# Altium footprint library con-phoenix-350.PCBLIB: 23 footprints (part 1 of 2)
Each footprint in its own frame and in the unit in brackets; x right, y up, seen from the top. Pads: shape width x height; smd on the part's side, far side on the other; paste and mask are expansions set on the pad; w line width, h text height; cw(c..) or ccw(c..) is an arc to the next point about the centre after c.
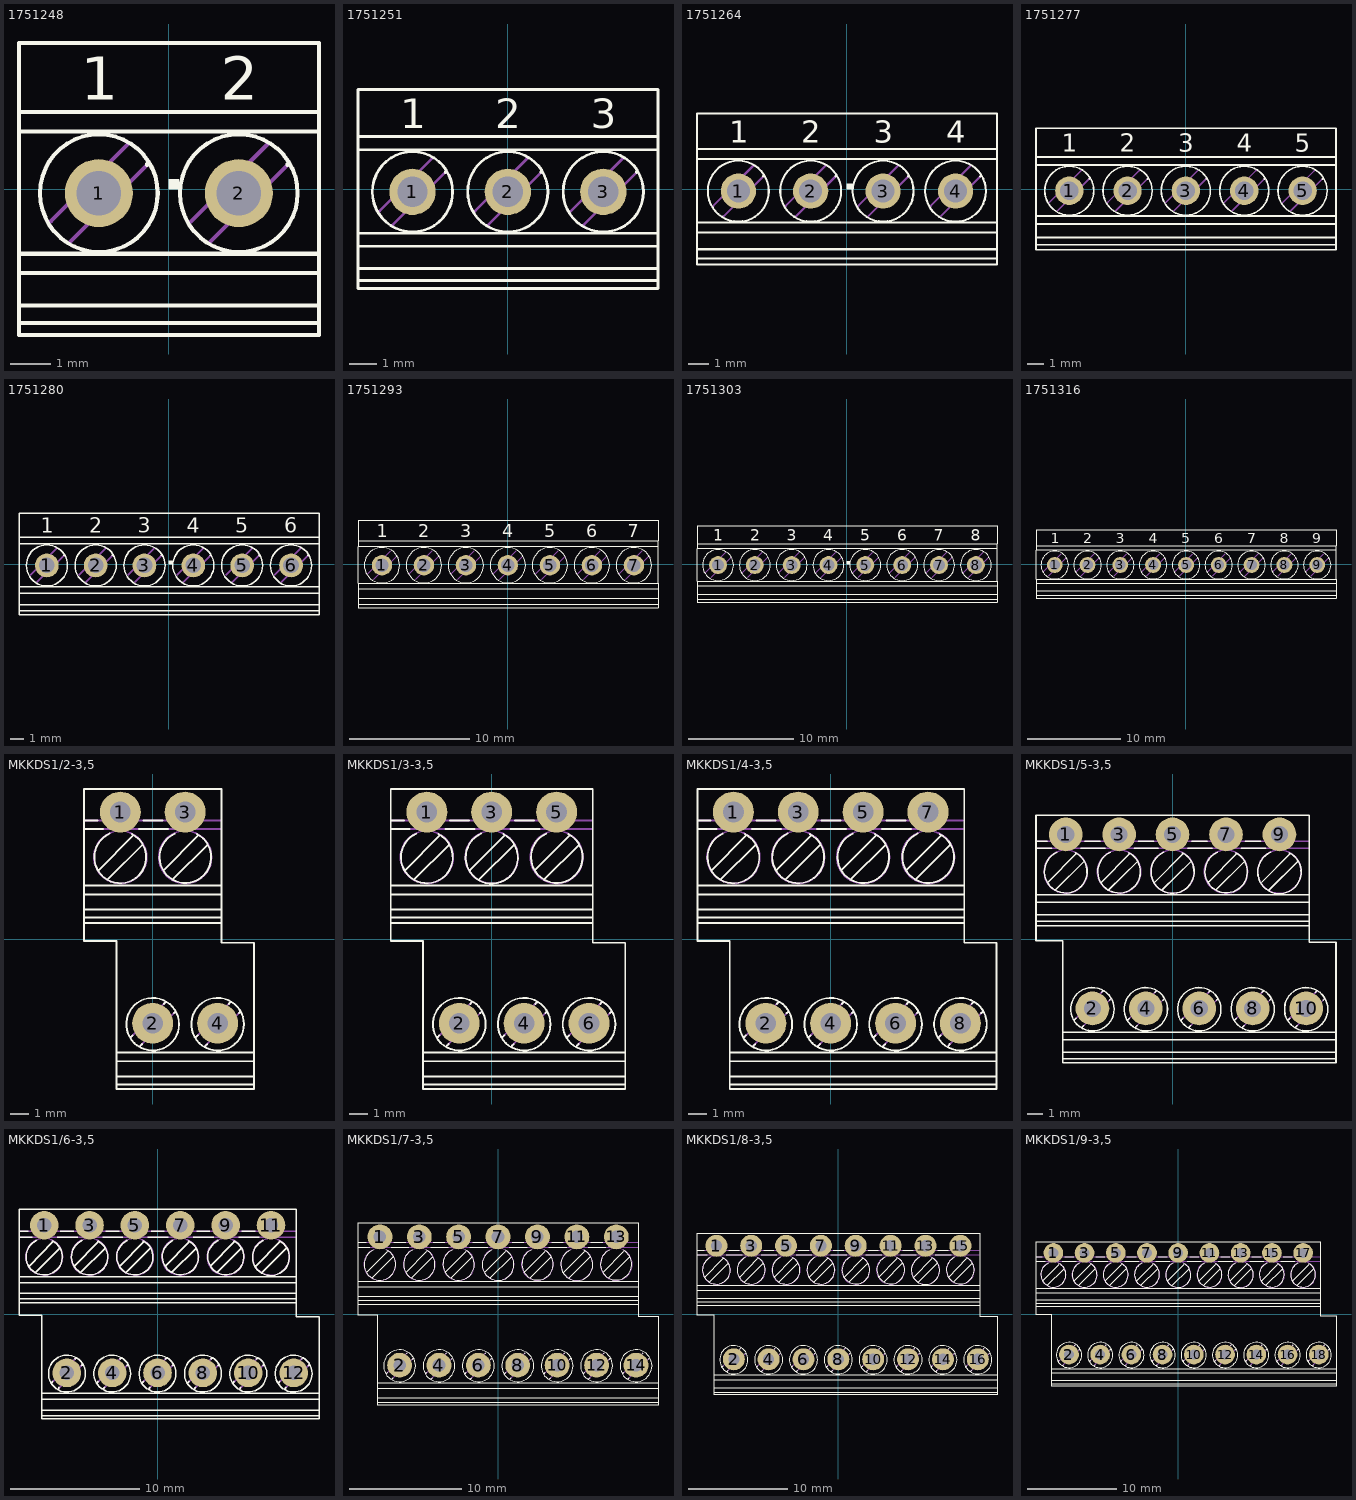
[diagram p0: the footprints below, top view; thin cyan lines are the x and y axes]

## 1751248 [mil]
pads (2):
  round 67 hole 44: 1(-68.9,-3.94) 2(69,-3.94)
Top Overlay:
  circle w4: c-68.9,-3.94 r58
  circle w4: c69,-3.94 r58
  region: 0,0 10,0 10,10 0,10
  lines w4: -21.65,24 -21.42,25 ; 117,24 117,25 ; -147.64,-131.89 148,-131.89 ; -147.64,-131.89 -147.64,-143.7 148,-143.7 148,-131.89 ; -147.64,-131.89 -147.64,-114.61 ; -147.64,-114.61 -147.64,-82.65 ; -147.64,-114.61 148,-114.61 ; -147.64,-82.65 148,-82.65 ; -147.64,-82.65 -147.64,-63.63 ; -147.64,-63.63 -147.64,57 ; -147.64,-63.63 148,-63.63 ; -147.64,57 -147.64,76 ; -147.64,57 148,57 ; -147.64,76 -147.64,144 148,144 148,76 ; -147.64,76 148,76 ; 148,-131.89 148,-114.61 ; 148,-114.61 148,-82.65 ; 148,-82.65 148,-63.63 ; 148,-63.63 148,57 ; 148,57 148,76
  text "1" at -86.61,88 h42.5
  text "2" at 51,88 h42.5
Mechanical 16:
  lines w4: -116.38,-31.93 -40.91,44 ; -96.89,-51.42 -21.65,24 ; 22,-31.93 97,44 ; 41,-51.42 117,24

## 1751251 [mil]
pads (3):
  round 67 hole 44: 1(-137.8,-3.94) 2(0,-3.94) 3(138,-3.94)
Top Overlay:
  circle w4: c-137.8,-3.94 r58
  circle w4: c0,-3.94 r58
  circle w4: c138,-3.94 r58
  region: 0,0 10,0 10,10 0,10
  lines w4: -90.55,24 -90.31,25 ; 48,24 48,25 ; 186,24 186,25 ; -216.54,-131.89 217,-131.89 ; -216.54,-131.89 -216.54,-143.7 217,-143.7 217,-131.89 ; -216.54,-131.89 -216.54,-114.61 ; -216.54,-114.61 -216.54,-82.65 ; -216.54,-114.61 217,-114.61 ; -216.54,-82.65 217,-82.65 ; -216.54,-82.65 -216.54,-63.63 ; -216.54,-63.63 -216.54,57 ; -216.54,-63.63 217,-63.63 ; -216.54,57 -216.54,76 ; -216.54,57 217,57 ; -216.54,76 -216.54,144 217,144 217,76 ; -216.54,76 217,76 ; 217,-131.89 217,-114.61 ; 217,-114.61 217,-82.65 ; 217,-82.65 217,-63.63 ; 217,-63.63 217,57 ; 217,57 217,76
  text "1" at -155.51,88 h42.5
  text "2" at -18.01,88 h42.5
  text "3" at 120,88 h42.5
Mechanical 16:
  lines w4: -185.28,-31.93 -109.8,44 ; -165.79,-51.42 -90.55,24 ; -47.48,-31.93 28,44 ; -27.99,-51.42 48,24 ; 91,-31.93 166,44 ; 110,-51.42 186,24

## 1751264 [mil]
pads (4):
  round 67 hole 44: 1(-206.69,-3.94) 2(-68.9,-3.94) 3(69,-3.94) 4(207,-3.94)
Top Overlay:
  circle w4: c-206.69,-3.94 r58
  circle w4: c-68.9,-3.94 r58
  circle w4: c69,-3.94 r58
  circle w4: c207,-3.94 r58
  region: 0,0 10,0 10,10 0,10
  lines w4: -159.45,24 -159.21,25 ; -21.65,24 -21.42,25 ; 117,24 117,25 ; 254,24 255,25 ; -285.43,-131.89 286,-131.89 ; -285.43,-131.89 -285.43,-143.7 286,-143.7 286,-131.89 ; -285.43,-131.89 -285.43,-114.61 ; -285.43,-114.61 -285.43,-82.65 ; -285.43,-114.61 286,-114.61 ; -285.43,-82.65 286,-82.65 ; -285.43,-82.65 -285.43,-63.63 ; -285.43,-63.63 -285.43,57 ; -285.43,-63.63 286,-63.63 ; -285.43,57 -285.43,76 ; -285.43,57 286,57 ; -285.43,76 -285.43,144 286,144 286,76 ; -285.43,76 286,76 ; 286,-131.89 286,-114.61 ; 286,-114.61 286,-82.65 ; 286,-82.65 286,-63.63 ; 286,-63.63 286,57 ; 286,57 286,76
  text "1" at -224.41,88 h42.5
  text "2" at -86.91,88 h42.5
  text "3" at 51,88 h42.5
  text "4" at 189,88 h42.5
Mechanical 16:
  lines w4: -254.17,-31.93 -178.7,44 ; -234.69,-51.42 -159.45,24 ; -116.38,-31.93 -40.91,44 ; -96.89,-51.42 -21.65,24 ; 22,-31.93 97,44 ; 41,-51.42 117,24 ; 160,-31.93 235,44 ; 179,-51.42 254,24

## 1751277 [mil]
pads (5):
  round 67 hole 44: 1(-275.59,-3.94) 2(-137.8,-3.94) 3(0,-3.94) 4(138,-3.94) 5(276,-3.94)
Top Overlay:
  circle w4: c-275.59,-3.94 r58
  circle w4: c-137.8,-3.94 r58
  circle w4: c0,-3.94 r58
  circle w4: c138,-3.94 r58
  circle w4: c276,-3.94 r58
  region: 0,0 10,0 10,10 0,10
  lines w4: -228.35,24 -228.11,25 ; -90.55,24 -90.31,25 ; 48,24 48,25 ; 186,24 186,25 ; 323,24 324,25 ; -354.33,-131.89 355,-131.89 ; -354.33,-131.89 -354.33,-143.7 355,-143.7 355,-131.89 ; -354.33,-131.89 -354.33,-114.61 ; -354.33,-114.61 -354.33,-82.65 ; -354.33,-114.61 355,-114.61 ; -354.33,-82.65 355,-82.65 ; -354.33,-82.65 -354.33,-63.63 ; -354.33,-63.63 -354.33,57 ; -354.33,-63.63 355,-63.63 ; -354.33,57 -354.33,76 ; -354.33,57 355,57 ; -354.33,76 -354.33,144 355,144 355,76 ; -354.33,76 355,76 ; 355,-131.89 355,-114.61 ; 355,-114.61 355,-82.65 ; 355,-82.65 355,-63.63 ; 355,-63.63 355,57 ; 355,57 355,76
  text "1" at -293.31,88 h42.5
  text "2" at -155.81,88 h42.5
  text "3" at -18.31,88 h42.5
  text "4" at 120,88 h42.5
  text "5" at 257,88 h42.5
Mechanical 16:
  lines w4: -323.07,-31.93 -247.6,44 ; -303.58,-51.42 -228.35,24 ; -185.28,-31.93 -109.8,44 ; -165.79,-51.42 -90.55,24 ; -47.48,-31.93 28,44 ; -27.99,-51.42 48,24 ; 91,-31.93 166,44 ; 110,-51.42 186,24 ; 229,-31.93 304,44 ; 248,-51.42 323,24

## 1751280 [mil]
pads (6):
  round 67 hole 44: 1(-344.49,-3.94) 2(-206.69,-3.94) 3(-68.9,-3.94) 4(69,-3.94) 5(207,-3.94) 6(345,-3.94)
Top Overlay:
  circle w4: c-344.49,-3.94 r58
  circle w4: c-206.69,-3.94 r58
  circle w4: c-68.9,-3.94 r58
  circle w4: c69,-3.94 r58
  circle w4: c207,-3.94 r58
  circle w4: c345,-3.94 r58
  region: 0,0 10,0 10,10 0,10
  lines w4: -297.24,24 -297.01,25 ; -159.45,24 -159.21,25 ; -21.65,24 -21.42,25 ; 117,24 117,25 ; 254,24 255,25 ; 392,24 392,25 ; -423.23,-131.89 424,-131.89 ; -423.23,-131.89 -423.23,-143.7 424,-143.7 424,-131.89 ; -423.23,-131.89 -423.23,-114.61 ; -423.23,-114.61 -423.23,-82.65 ; -423.23,-114.61 424,-114.61 ; -423.23,-82.65 424,-82.65 ; -423.23,-82.65 -423.23,-63.63 ; -423.23,-63.63 -423.23,57 ; -423.23,-63.63 424,-63.63 ; -423.23,57 -423.23,76 ; -423.23,57 424,57 ; -423.23,76 -423.23,144 424,144 424,76 ; -423.23,76 424,76 ; 424,-131.89 424,-114.61 ; 424,-114.61 424,-82.65 ; 424,-82.65 424,-63.63 ; 424,-63.63 424,57 ; 424,57 424,76
  text "1" at -362.2,88 h42.5
  text "2" at -224.7,88 h42.5
  text "3" at -87.2,88 h42.5
  text "4" at 51,88 h42.5
  text "5" at 188,88 h42.5
  text "6" at 326,88 h42.5
Mechanical 16:
  lines w4: -391.97,-31.93 -316.5,44 ; -372.48,-51.42 -297.24,24 ; -254.17,-31.93 -178.7,44 ; -234.69,-51.42 -159.45,24 ; -116.38,-31.93 -40.91,44 ; -96.89,-51.42 -21.65,24 ; 22,-31.93 97,44 ; 41,-51.42 117,24 ; 160,-31.93 235,44 ; 179,-51.42 254,24 ; 298,-31.93 373,44 ; 317,-51.42 392,24

## 1751293 [mil]
pads (7):
  round 67 hole 44: 1(-413.39,-3.94) 2(-275.59,-3.94) 3(-137.8,-3.94) 4(0,-3.94) 5(138,-3.94) 6(276,-3.94) 7(414,-3.94)
Top Overlay:
  circle w4: c-413.39,-3.94 r58
  circle w4: c-275.59,-3.94 r58
  circle w4: c-137.8,-3.94 r58
  circle w4: c0,-3.94 r58
  circle w4: c138,-3.94 r58
  circle w4: c276,-3.94 r58
  circle w4: c414,-3.94 r58
  region: 0,0 10,0 10,10 0,10
  lines w4: -366.14,24 -365.91,25 ; -228.35,24 -228.11,25 ; -90.55,24 -90.31,25 ; 48,24 48,25 ; 186,24 186,25 ; 323,24 324,25 ; 461,24 461,25 ; -492.13,-131.89 493,-131.89 ; -492.13,-131.89 -492.13,-143.7 493,-143.7 493,-131.89 ; -492.13,-131.89 -492.13,-114.61 ; -492.13,-114.61 -492.13,-82.65 ; -492.13,-114.61 493,-114.61 ; -492.13,-82.65 493,-82.65 ; -492.13,-82.65 -492.13,-63.63 ; -492.13,-63.63 -492.13,57 ; -492.13,-63.63 493,-63.63 ; -492.13,57 -492.13,76 ; -492.13,57 493,57 ; -492.13,76 -492.13,144 493,144 493,76 ; -492.13,76 493,76 ; 493,-131.89 493,-114.61 ; 493,-114.61 493,-82.65 ; 493,-82.65 493,-63.63 ; 493,-63.63 493,57 ; 493,57 493,76
  text "1" at -431.1,88 h42.5
  text "2" at -293.6,88 h42.5
  text "3" at -156.1,88 h42.5
  text "4" at -18.6,88 h42.5
  text "5" at 119,88 h42.5
  text "6" at 257,88 h42.5
  text "7" at 394,88 h42.5
Mechanical 16:
  lines w4: -460.87,-31.93 -385.39,44 ; -441.38,-51.42 -366.14,24 ; -323.07,-31.93 -247.6,44 ; -303.58,-51.42 -228.35,24 ; -185.28,-31.93 -109.8,44 ; -165.79,-51.42 -90.55,24 ; -47.48,-31.93 28,44 ; -27.99,-51.42 48,24 ; 91,-31.93 166,44 ; 110,-51.42 186,24 ; 229,-31.93 304,44 ; 248,-51.42 323,24 ; 366,-31.93 442,44 ; 386,-51.42 461,24

## 1751303 [mil]
pads (8):
  round 67 hole 44: 1(-482.28,-3.94) 2(-344.49,-3.94) 3(-206.69,-3.94) 4(-68.9,-3.94) 5(69,-3.94) 6(207,-3.94) 7(345,-3.94) 8(483,-3.94)
Top Overlay:
  circle w4: c-482.28,-3.94 r58
  circle w4: c-344.49,-3.94 r58
  circle w4: c-206.69,-3.94 r58
  circle w4: c-68.9,-3.94 r58
  circle w4: c69,-3.94 r58
  circle w4: c207,-3.94 r58
  circle w4: c345,-3.94 r58
  circle w4: c483,-3.94 r58
  region: 0,0 10,0 10,10 0,10
  lines w4: -435.04,24 -434.8,25 ; -297.24,24 -297.01,25 ; -159.45,24 -159.21,25 ; -21.65,24 -21.42,25 ; 117,24 117,25 ; 254,24 255,25 ; 392,24 392,25 ; 530,24 530,25 ; -561.02,-131.89 562,-131.89 ; -561.02,-131.89 -561.02,-143.7 562,-143.7 562,-131.89 ; -561.02,-131.89 -561.02,-114.61 ; -561.02,-114.61 -561.02,-82.65 ; -561.02,-114.61 562,-114.61 ; -561.02,-82.65 562,-82.65 ; -561.02,-82.65 -561.02,-63.63 ; -561.02,-63.63 -561.02,57 ; -561.02,-63.63 562,-63.63 ; -561.02,57 -561.02,76 ; -561.02,57 562,57 ; -561.02,76 -561.02,144 562,144 562,76 ; -561.02,76 562,76 ; 562,-131.89 562,-114.61 ; 562,-114.61 562,-82.65 ; 562,-82.65 562,-63.63 ; 562,-63.63 562,57 ; 562,57 562,76
  text "1" at -500,88 h42.5
  text "2" at -362.5,88 h42.5
  text "3" at -225,88 h42.5
  text "4" at -87.5,88 h42.5
  text "5" at 50,88 h42.5
  text "6" at 188,88 h42.5
  text "7" at 325,88 h42.5
  text "8" at 463,88 h42.5
Mechanical 16:
  lines w4: -529.76,-31.93 -454.29,44 ; -510.28,-51.42 -435.04,24 ; -391.97,-31.93 -316.5,44 ; -372.48,-51.42 -297.24,24 ; -254.17,-31.93 -178.7,44 ; -234.69,-51.42 -159.45,24 ; -116.38,-31.93 -40.91,44 ; -96.89,-51.42 -21.65,24 ; 22,-31.93 97,44 ; 41,-51.42 117,24 ; 160,-31.93 235,44 ; 179,-51.42 254,24 ; 298,-31.93 373,44 ; 317,-51.42 392,24 ; 435,-31.93 511,44 ; 455,-51.42 530,24

## 1751316 [mil]
pads (9):
  round 67 hole 44: 1(-550.1,-3.94) 2(-412.3,-3.94) 3(-274.51,-3.94) 4(-136.71,-3.94) 5(2,-3.94) 6(139,-3.94) 7(277,-3.94) 8(415,-3.94) 9(553,-3.94)
Top Overlay:
  circle w4: c-550.1,-3.94 r58
  circle w4: c-412.3,-3.94 r58
  circle w4: c-274.51,-3.94 r58
  circle w4: c-136.71,-3.94 r58
  circle w4: c2,-3.94 r58
  circle w4: c139,-3.94 r58
  circle w4: c277,-3.94 r58
  circle w4: c415,-3.94 r58
  circle w4: c553,-3.94 r58
  region: 0,0 10,0 10,10 0,10
  lines w4: -502.85,24 -502.62,25 ; -365.06,24 -364.82,25 ; -227.26,24 -227.03,25 ; -89.47,24 -89.23,25 ; 49,24 49,25 ; 187,24 187,25 ; 324,24 325,25 ; 462,24 462,25 ; 600,24 600,25 ; -628.84,-131.89 632,-131.89 ; -628.84,-131.89 -628.84,-143.7 632,-143.7 632,-131.89 ; -628.84,-131.89 -628.84,-114.61 ; -628.84,-114.61 -628.84,-82.65 ; -628.84,-114.61 632,-114.61 ; -628.84,-82.65 632,-82.65 ; -628.84,-82.65 -628.84,-63.63 ; -628.84,-63.63 -628.84,57 ; -628.84,-63.63 632,-63.63 ; -628.84,57 -628.84,76 ; -628.84,57 632,57 ; -628.84,76 -628.84,144 632,144 632,76 ; -628.84,76 632,76 ; 632,-131.89 632,-114.61 ; 632,-114.61 632,-82.65 ; 632,-82.65 632,-63.63 ; 632,-63.63 632,57 ; 632,57 632,76
  text "1" at -567.82,88 h42.5
  text "2" at -430.31,88 h42.5
  text "3" at -292.81,88 h42.5
  text "4" at -155.31,88 h42.5
  text "5" at -17.82,88 h42.5
  text "6" at 120,88 h42.5
  text "7" at 258,88 h42.5
  text "8" at 395,88 h42.5
  text "9" at 533,88 h42.5
Mechanical 16:
  lines w4: -597.58,-31.93 -522.11,44 ; -578.09,-51.42 -502.85,24 ; -459.78,-31.93 -384.31,44 ; -440.3,-51.42 -365.06,24 ; -321.99,-31.93 -246.52,44 ; -302.5,-51.42 -227.26,24 ; -184.19,-31.93 -108.72,44 ; -164.7,-51.42 -89.47,24 ; -46.4,-31.93 30,44 ; -26.91,-51.42 49,24 ; 92,-31.93 167,44 ; 111,-51.42 187,24 ; 230,-31.93 305,44 ; 249,-51.42 324,24 ; 367,-31.93 443,44 ; 387,-51.42 462,24 ; 505,-31.93 581,44 ; 525,-51.42 600,24

## MKKDS1/2-3,5 [mil]
pads (4):
  round 87 hole 44: 1(-68.9,270) 2(0,-179.13) 3(69,270) 4(138,-179.13)
Top Overlay:
  circle w4: c0,-181.1 r56
  circle w4: c138,-181.1 r56
  lines w4: -144.69,234 -105.31,234 ; -144.69,252 -117.13,252 ; -143.7,34 145,34 ; -143.7,46 145,46 ; -143.7,63 145,63 ; -143.7,95 145,95 ; -143.7,114 145,114 ; -115.16,146 -42.32,220 ; -95.47,127 -21.65,200 ; -91.54,224 ccw(c-68.97,173.74) -44.29,223 ; -74.8,-309.06 214,-309.06 ; -74.8,-292.32 214,-292.32 ; -74.8,-259.84 214,-259.84 ; -74.8,-241.14 214,-241.14 ; -46.26,-208.66 -42.32,-204.72 ; -29.53,234 33,234 ; -26.57,-227.36 -22.64,-223.43 ; -19.68,252 21,252 ; 23,146 96,220 ; 24,-137.8 27,-134.84 ; 43,127 117,200 ; 45,-157.48 48,-154.53 ; 47,224 ccw(c69.45,173.99) 94,223 ; 92,-208.66 96,-204.72 ; 112,-227.36 116,-223.43 ; 162,-137.8 165,-134.84 ; 183,-157.48 186,-154.53 ; -145.67,-3.94 -145.67,319 146,319 146,-7.87 215,-7.87 215,-318.9 -76.77,-318.9 -76.77,-3.94 -145.67,-3.94
Mechanical 16:
  circle w4: c-68.9,174 r56
  circle w4: c69,174 r56
  lines w4: -144.69,234 144,234 ; -144.69,252 144,252 ; -46.26,-208.66 27,-134.84 ; -26.57,-227.36 48,-154.53 ; 92,-208.66 165,-134.84 ; 112,-227.36 186,-154.53

## MKKDS1/3-3,5 [mil]
pads (6):
  round 87 hole 44: 1(-137.8,270) 2(-68.9,-179.13) 3(0,270) 4(69,-179.13) 5(138,270) 6(207,-179.13)
Top Overlay:
  circle w4: c-68.9,-181.1 r56
  circle w4: c69,-181.1 r56
  circle w4: c207,-181.1 r56
  lines w4: -213.58,234 -174.21,234 ; -213.58,252 -186.02,252 ; -212.6,34 214,34 ; -212.6,46 214,46 ; -212.6,63 214,63 ; -212.6,95 214,95 ; -212.6,114 214,114 ; -184.06,146 -111.22,220 ; -164.37,127 -90.55,200 ; -160.43,224 ccw(c-137.86,173.74) -113.19,223 ; -143.7,-309.06 283,-309.06 ; -143.7,-292.32 283,-292.32 ; -143.7,-259.84 283,-259.84 ; -143.7,-241.14 283,-241.14 ; -115.16,-208.66 -111.22,-204.72 ; -98.43,234 -36.42,234 ; -95.47,-227.36 -91.54,-223.43 ; -88.58,252 -48.23,252 ; -46.26,146 27,220 ; -45.28,-137.8 -42.32,-134.84 ; -26.57,127 48,200 ; -24.61,-157.48 -21.65,-154.53 ; -22.64,224 ccw(c0.13,173.32) 25,223 ; 23,-208.66 27,-204.72 ; 40,234 102,234 ; 43,-227.36 47,-223.43 ; 50,252 90,252 ; 92,146 165,220 ; 93,-137.8 96,-134.84 ; 112,127 186,200 ; 114,-157.48 117,-154.53 ; 116,224 ccw(c138.45,173.99) 163,223 ; 161,-208.66 165,-204.72 ; 181,-227.36 185,-223.43 ; 231,-137.8 234,-134.84 ; 251,-157.48 254,-154.53 ; -214.57,-3.94 -214.57,319 215,319 215,-7.87 284,-7.87 284,-318.9 -145.67,-318.9 -145.67,-3.94 -214.57,-3.94
Mechanical 16:
  circle w4: c-137.8,174 r56
  circle w4: c0,174 r56
  circle w4: c138,174 r56
  lines w4: -213.58,234 213,234 ; -213.58,252 213,252 ; -115.16,-208.66 -42.32,-134.84 ; -95.47,-227.36 -21.65,-154.53 ; 23,-208.66 96,-134.84 ; 43,-227.36 117,-154.53 ; 161,-208.66 234,-134.84 ; 181,-227.36 254,-154.53

## MKKDS1/4-3,5 [mil]
pads (8):
  round 87 hole 44: 1(-206.69,270) 2(-137.8,-179.13) 3(-68.9,270) 4(0,-179.13) 5(69,270) 6(138,-179.13) 7(207,270) 8(276,-179.13)
Top Overlay:
  circle w4: c-137.8,-181.1 r56
  circle w4: c0,-181.1 r56
  circle w4: c138,-181.1 r56
  circle w4: c276,-181.1 r56
  lines w4: -282.48,234 -243.11,234 ; -282.48,252 -254.92,252 ; -281.5,34 283,34 ; -281.5,46 283,46 ; -281.5,63 283,63 ; -281.5,95 283,95 ; -281.5,114 283,114 ; -252.95,146 -180.12,220 ; -233.27,127 -159.45,200 ; -229.33,224 ccw(c-206.76,173.74) -182.09,223 ; -212.6,-309.06 352,-309.06 ; -212.6,-292.32 352,-292.32 ; -212.6,-259.84 352,-259.84 ; -212.6,-241.14 352,-241.14 ; -184.06,-208.66 -180.12,-204.72 ; -167.32,234 -105.31,234 ; -164.37,-227.36 -160.43,-223.43 ; -157.48,252 -117.13,252 ; -115.16,146 -42.32,220 ; -114.17,-137.8 -111.22,-134.84 ; -95.47,127 -21.65,200 ; -93.5,-157.48 -90.55,-154.53 ; -91.54,224 ccw(c-68.97,173.74) -44.29,223 ; -46.26,-208.66 -42.32,-204.72 ; -29.53,234 33,234 ; -26.57,-227.36 -22.64,-223.43 ; -19.68,252 21,252 ; 23,146 96,220 ; 24,-137.8 27,-134.84 ; 43,127 117,200 ; 45,-157.48 48,-154.53 ; 47,224 ccw(c69.45,173.99) 94,223 ; 92,-208.66 96,-204.72 ; 109,234 171,234 ; 112,-227.36 116,-223.43 ; 119,252 159,252 ; 161,146 234,220 ; 162,-137.8 165,-134.84 ; 181,127 254,200 ; 183,-157.48 186,-154.53 ; 185,224 ccw(c207.45,173.99) 232,223 ; 230,-208.66 234,-204.72 ; 250,-227.36 253,-223.43 ; 300,-137.8 303,-134.84 ; 320,-157.48 323,-154.53 ; -283.46,-3.94 -283.46,319 284,319 284,-7.87 353,-7.87 353,-318.9 -214.57,-318.9 -214.57,-3.94 -283.46,-3.94
Mechanical 16:
  circle w4: c-206.69,174 r56
  circle w4: c-68.9,174 r56
  circle w4: c69,174 r56
  circle w4: c207,174 r56
  lines w4: -282.48,234 282,234 ; -282.48,252 282,252 ; -184.06,-208.66 -111.22,-134.84 ; -164.37,-227.36 -90.55,-154.53 ; -46.26,-208.66 27,-134.84 ; -26.57,-227.36 48,-154.53 ; 92,-208.66 165,-134.84 ; 112,-227.36 186,-154.53 ; 230,-208.66 303,-134.84 ; 250,-227.36 323,-154.53

## MKKDS1/5-3,5 [mil]
pads (10):
  round 87 hole 44: 1(-275.59,270) 2(-206.69,-179.13) 3(-137.8,270) 4(-68.9,-179.13) 5(0,270) 6(69,-179.13) 7(138,270) 8(207,-179.13) 9(276,270) 10(345,-179.13)
Top Overlay:
  circle w4: c-206.69,-181.1 r56
  circle w4: c-68.9,-181.1 r56
  circle w4: c69,-181.1 r56
  circle w4: c207,-181.1 r56
  circle w4: c345,-181.1 r56
  lines w4: -351.38,234 -312.01,234 ; -351.38,252 -323.82,252 ; -350.39,34 352,34 ; -350.39,46 352,46 ; -350.39,63 352,63 ; -350.39,95 352,95 ; -350.39,114 352,114 ; -321.85,146 -249.02,220 ; -302.17,127 -228.35,200 ; -298.23,224 ccw(c-275.66,173.74) -250.98,223 ; -281.5,-309.06 421,-309.06 ; -281.5,-292.32 421,-292.32 ; -281.5,-259.84 421,-259.84 ; -281.5,-241.14 421,-241.14 ; -252.95,-208.66 -249.02,-204.72 ; -236.22,234 -174.21,234 ; -233.27,-227.36 -229.33,-223.43 ; -226.38,252 -186.02,252 ; -184.06,146 -111.22,220 ; -183.07,-137.8 -180.12,-134.84 ; -164.37,127 -90.55,200 ; -162.4,-157.48 -159.45,-154.53 ; -160.43,224 ccw(c-137.86,173.74) -113.19,223 ; -115.16,-208.66 -111.22,-204.72 ; -98.43,234 -36.42,234 ; -95.47,-227.36 -91.54,-223.43 ; -88.58,252 -48.23,252 ; -46.26,146 27,220 ; -45.28,-137.8 -42.32,-134.84 ; -26.57,127 48,200 ; -24.61,-157.48 -21.65,-154.53 ; -22.64,224 ccw(c0.13,173.32) 25,223 ; 23,-208.66 27,-204.72 ; 40,234 102,234 ; 43,-227.36 47,-223.43 ; 50,252 90,252 ; 92,146 165,220 ; 93,-137.8 96,-134.84 ; 112,127 186,200 ; 114,-157.48 117,-154.53 ; 116,224 ccw(c138.45,173.99) 163,223 ; 161,-208.66 165,-204.72 ; 178,234 240,234 ; 181,-227.36 185,-223.43 ; 188,252 228,252 ; 230,146 303,220 ; 231,-137.8 234,-134.84 ; 250,127 323,200 ; 251,-157.48 254,-154.53 ; 253,224 ccw(c275.95,172.94) 301,223 ; 299,-208.66 303,-204.72 ; 318,-227.36 322,-223.43 ; 369,-137.8 372,-134.84 ; 389,-157.48 392,-154.53 ; -352.36,-3.94 -352.36,319 353,319 353,-7.87 422,-7.87 422,-318.9 -283.46,-318.9 -283.46,-3.94 -352.36,-3.94
Mechanical 16:
  circle w4: c-275.59,174 r56
  circle w4: c-137.8,174 r56
  circle w4: c0,174 r56
  circle w4: c138,174 r56
  circle w4: c276,174 r56
  lines w4: -351.38,234 351,234 ; -351.38,252 351,252 ; -252.95,-208.66 -180.12,-134.84 ; -233.27,-227.36 -159.45,-154.53 ; -115.16,-208.66 -42.32,-134.84 ; -95.47,-227.36 -21.65,-154.53 ; 23,-208.66 96,-134.84 ; 43,-227.36 117,-154.53 ; 161,-208.66 234,-134.84 ; 181,-227.36 254,-154.53 ; 299,-208.66 372,-134.84 ; 318,-227.36 392,-154.53

## MKKDS1/6-3,5 [mil]
pads (12):
  round 87 hole 44: 1(-344.49,270) 2(-275.59,-179.13) 3(-206.69,270) 4(-137.8,-179.13) 5(-68.9,270) 6(0,-179.13) 7(69,270) 8(138,-179.13) 9(207,270) 10(276,-179.13) 11(345,270) 12(414,-179.13)
Top Overlay:
  circle w4: c-275.59,-181.1 r56
  circle w4: c-137.8,-181.1 r56
  circle w4: c0,-181.1 r56
  circle w4: c138,-181.1 r56
  circle w4: c276,-181.1 r56
  circle w4: c414,-181.1 r56
  lines w4: -420.28,234 -380.91,234 ; -420.28,252 -392.72,252 ; -419.29,34 421,34 ; -419.29,46 421,46 ; -419.29,63 421,63 ; -419.29,95 421,95 ; -419.29,114 421,114 ; -390.75,146 -317.91,220 ; -371.06,127 -297.24,200 ; -367.13,224 ccw(c-344.56,173.74) -319.88,223 ; -350.39,-309.06 490,-309.06 ; -350.39,-292.32 490,-292.32 ; -350.39,-259.84 490,-259.84 ; -350.39,-241.14 490,-241.14 ; -321.85,-208.66 -317.91,-204.72 ; -305.12,234 -243.11,234 ; -302.17,-227.36 -298.23,-223.43 ; -295.28,252 -254.92,252 ; -252.95,146 -180.12,220 ; -251.97,-137.8 -249.02,-134.84 ; -233.27,127 -159.45,200 ; -231.3,-157.48 -228.35,-154.53 ; -229.33,224 ccw(c-206.76,173.74) -182.09,223 ; -184.06,-208.66 -180.12,-204.72 ; -167.32,234 -105.31,234 ; -164.37,-227.36 -160.43,-223.43 ; -157.48,252 -117.13,252 ; -115.16,146 -42.32,220 ; -114.17,-137.8 -111.22,-134.84 ; -95.47,127 -21.65,200 ; -93.5,-157.48 -90.55,-154.53 ; -91.54,224 ccw(c-68.97,173.74) -44.29,223 ; -46.26,-208.66 -42.32,-204.72 ; -29.53,234 33,234 ; -26.57,-227.36 -22.64,-223.43 ; -19.68,252 21,252 ; 23,146 96,220 ; 24,-137.8 27,-134.84 ; 43,127 117,200 ; 45,-157.48 48,-154.53 ; 47,224 ccw(c69.45,173.99) 94,223 ; 92,-208.66 96,-204.72 ; 109,234 171,234 ; 112,-227.36 116,-223.43 ; 119,252 159,252 ; 161,146 234,220 ; 162,-137.8 165,-134.84 ; 181,127 254,200 ; 183,-157.48 186,-154.53 ; 185,224 ccw(c207.45,173.99) 232,223 ; 230,-208.66 234,-204.72 ; 247,234 309,234 ; 250,-227.36 253,-223.43 ; 256,252 297,252 ; 299,146 372,220 ; 300,-137.8 303,-134.84 ; 318,127 392,200 ; 320,-157.48 323,-154.53 ; 322,224 ccw(c344.95,172.94) 370,223 ; 368,-208.66 372,-204.72 ; 387,-227.36 391,-223.43 ; 438,-137.8 440,-134.84 ; 458,-157.48 461,-154.53 ; -421.26,-3.94 -421.26,319 422,319 422,-7.87 491,-7.87 491,-318.9 -352.36,-318.9 -352.36,-3.94 -421.26,-3.94
Mechanical 16:
  circle w4: c-344.49,174 r56
  circle w4: c-206.69,174 r56
  circle w4: c-68.9,174 r56
  circle w4: c69,174 r56
  circle w4: c207,174 r56
  circle w4: c345,174 r56
  lines w4: -420.28,234 420,234 ; -420.28,252 420,252 ; -321.85,-208.66 -249.02,-134.84 ; -302.17,-227.36 -228.35,-154.53 ; -184.06,-208.66 -111.22,-134.84 ; -164.37,-227.36 -90.55,-154.53 ; -46.26,-208.66 27,-134.84 ; -26.57,-227.36 48,-154.53 ; 92,-208.66 165,-134.84 ; 112,-227.36 186,-154.53 ; 230,-208.66 303,-134.84 ; 250,-227.36 323,-154.53 ; 368,-208.66 440,-134.84 ; 387,-227.36 461,-154.53

## MKKDS1/7-3,5 [mil]
pads (14):
  round 87 hole 44: 1(-413.39,270) 2(-344.49,-179.13) 3(-275.59,270) 4(-206.69,-179.13) 5(-137.8,270) 6(-68.9,-179.13) 7(0,270) 8(69,-179.13) 9(138,270) 10(207,-179.13) 11(276,270) 12(345,-179.13) 13(414,270) 14(483,-179.13)
Top Overlay:
  circle w4: c-344.49,-181.1 r56
  circle w4: c-206.69,-181.1 r56
  circle w4: c-68.9,-181.1 r56
  circle w4: c69,-181.1 r56
  circle w4: c207,-181.1 r56
  circle w4: c345,-181.1 r56
  circle w4: c483,-181.1 r56
  lines w4: -489.17,234 -449.8,234 ; -489.17,252 -461.61,252 ; -488.19,34 490,34 ; -488.19,46 490,46 ; -488.19,63 490,63 ; -488.19,95 490,95 ; -488.19,114 490,114 ; -459.65,146 -386.81,220 ; -439.96,127 -366.14,200 ; -436.02,224 ccw(c-413.45,173.74) -388.78,223 ; -419.29,-309.06 559,-309.06 ; -419.29,-292.32 559,-292.32 ; -419.29,-259.84 559,-259.84 ; -419.29,-241.14 559,-241.14 ; -390.75,-208.66 -386.81,-204.72 ; -374.02,234 -312.01,234 ; -371.06,-227.36 -367.13,-223.43 ; -364.17,252 -323.82,252 ; -321.85,146 -249.02,220 ; -320.87,-137.8 -317.91,-134.84 ; -302.17,127 -228.35,200 ; -300.2,-157.48 -297.24,-154.53 ; -298.23,224 ccw(c-275.66,173.74) -250.98,223 ; -252.95,-208.66 -249.02,-204.72 ; -236.22,234 -174.21,234 ; -233.27,-227.36 -229.33,-223.43 ; -226.38,252 -186.02,252 ; -184.06,146 -111.22,220 ; -183.07,-137.8 -180.12,-134.84 ; -164.37,127 -90.55,200 ; -162.4,-157.48 -159.45,-154.53 ; -160.43,224 ccw(c-137.86,173.74) -113.19,223 ; -115.16,-208.66 -111.22,-204.72 ; -98.43,234 -36.42,234 ; -95.47,-227.36 -91.54,-223.43 ; -88.58,252 -48.23,252 ; -46.26,146 27,220 ; -45.28,-137.8 -42.32,-134.84 ; -26.57,127 48,200 ; -24.61,-157.48 -21.65,-154.53 ; -22.64,224 ccw(c0.13,173.32) 25,223 ; 23,-208.66 27,-204.72 ; 40,234 102,234 ; 43,-227.36 47,-223.43 ; 50,252 90,252 ; 92,146 165,220 ; 93,-137.8 96,-134.84 ; 112,127 186,200 ; 114,-157.48 117,-154.53 ; 116,224 ccw(c138.45,173.99) 163,223 ; 161,-208.66 165,-204.72 ; 178,234 240,234 ; 181,-227.36 185,-223.43 ; 188,252 228,252 ; 230,146 303,220 ; 231,-137.8 234,-134.84 ; 250,127 323,200 ; 251,-157.48 254,-154.53 ; 253,224 ccw(c275.95,172.94) 301,223 ; 299,-208.66 303,-204.72 ; 315,234 377,234 ; 318,-227.36 322,-223.43 ; 325,252 366,252 ; 368,146 440,220 ; 369,-137.8 372,-134.84 ; 387,127 461,200 ; 389,-157.48 392,-154.53 ; 391,224 ccw(c413.45,173.99) 438,223 ; 437,-208.66 440,-204.72 ; 456,-227.36 460,-223.43 ; 506,-137.8 509,-134.84 ; 527,-157.48 530,-154.53 ; -490.16,-3.94 -490.16,319 491,319 491,-7.87 560,-7.87 560,-318.9 -421.26,-318.9 -421.26,-3.94 -490.16,-3.94
Mechanical 16:
  circle w4: c-413.39,174 r56
  circle w4: c-275.59,174 r56
  circle w4: c-137.8,174 r56
  circle w4: c0,174 r56
  circle w4: c138,174 r56
  circle w4: c276,174 r56
  circle w4: c414,174 r56
  lines w4: -489.17,234 489,234 ; -489.17,252 489,252 ; -390.75,-208.66 -317.91,-134.84 ; -371.06,-227.36 -297.24,-154.53 ; -252.95,-208.66 -180.12,-134.84 ; -233.27,-227.36 -159.45,-154.53 ; -115.16,-208.66 -42.32,-134.84 ; -95.47,-227.36 -21.65,-154.53 ; 23,-208.66 96,-134.84 ; 43,-227.36 117,-154.53 ; 161,-208.66 234,-134.84 ; 181,-227.36 254,-154.53 ; 299,-208.66 372,-134.84 ; 318,-227.36 392,-154.53 ; 437,-208.66 509,-134.84 ; 456,-227.36 530,-154.53

## MKKDS1/8-3,5 [mil]
pads (16):
  round 87 hole 44: 1(-482.28,270) 2(-413.39,-179.13) 3(-344.49,270) 4(-275.59,-179.13) 5(-206.69,270) 6(-137.8,-179.13) 7(-68.9,270) 8(0,-179.13) 9(69,270) 10(138,-179.13) 11(207,270) 12(276,-179.13) 13(345,270) 14(414,-179.13) 15(483,270) 16(552,-179.13)
Top Overlay:
  circle w4: c-413.39,-181.1 r56
  circle w4: c-275.59,-181.1 r56
  circle w4: c-137.8,-181.1 r56
  circle w4: c0,-181.1 r56
  circle w4: c138,-181.1 r56
  circle w4: c276,-181.1 r56
  circle w4: c414,-181.1 r56
  circle w4: c552,-181.1 r56
  lines w4: -558.07,234 -518.7,234 ; -558.07,252 -530.51,252 ; -557.09,34 559,34 ; -557.09,46 559,46 ; -557.09,63 559,63 ; -557.09,95 559,95 ; -557.09,114 559,114 ; -528.54,146 -455.71,220 ; -508.86,127 -435.04,200 ; -504.92,224 ccw(c-482.35,173.74) -457.68,223 ; -488.19,-309.06 627,-309.06 ; -488.19,-292.32 627,-292.32 ; -488.19,-259.84 627,-259.84 ; -488.19,-241.14 627,-241.14 ; -459.65,-208.66 -455.71,-204.72 ; -442.91,234 -380.91,234 ; -439.96,-227.36 -436.02,-223.43 ; -433.07,252 -392.72,252 ; -390.75,146 -317.91,220 ; -389.76,-137.8 -386.81,-134.84 ; -371.06,127 -297.24,200 ; -369.09,-157.48 -366.14,-154.53 ; -367.13,224 ccw(c-344.56,173.74) -319.88,223 ; -321.85,-208.66 -317.91,-204.72 ; -305.12,234 -243.11,234 ; -302.17,-227.36 -298.23,-223.43 ; -295.28,252 -254.92,252 ; -252.95,146 -180.12,220 ; -251.97,-137.8 -249.02,-134.84 ; -233.27,127 -159.45,200 ; -231.3,-157.48 -228.35,-154.53 ; -229.33,224 ccw(c-206.76,173.74) -182.09,223 ; -184.06,-208.66 -180.12,-204.72 ; -167.32,234 -105.31,234 ; -164.37,-227.36 -160.43,-223.43 ; -157.48,252 -117.13,252 ; -115.16,146 -42.32,220 ; -114.17,-137.8 -111.22,-134.84 ; -95.47,127 -21.65,200 ; -93.5,-157.48 -90.55,-154.53 ; -91.54,224 ccw(c-68.97,173.74) -44.29,223 ; -46.26,-208.66 -42.32,-204.72 ; -29.53,234 33,234 ; -26.57,-227.36 -22.64,-223.43 ; -19.68,252 21,252 ; 23,146 96,220 ; 24,-137.8 27,-134.84 ; 43,127 117,200 ; 45,-157.48 48,-154.53 ; 47,224 ccw(c69.45,173.99) 94,223 ; 92,-208.66 96,-204.72 ; 109,234 171,234 ; 112,-227.36 116,-223.43 ; 119,252 159,252 ; 161,146 234,220 ; 162,-137.8 165,-134.84 ; 181,127 254,200 ; 183,-157.48 186,-154.53 ; 185,224 ccw(c207.45,173.99) 232,223 ; 230,-208.66 234,-204.72 ; 247,234 309,234 ; 250,-227.36 253,-223.43 ; 256,252 297,252 ; 299,146 372,220 ; 300,-137.8 303,-134.84 ; 318,127 392,200 ; 320,-157.48 323,-154.53 ; 322,224 ccw(c344.95,172.94) 370,223 ; 368,-208.66 372,-204.72 ; 384,234 446,234 ; 387,-227.36 391,-223.43 ; 394,252 435,252 ; 437,146 509,220 ; 438,-137.8 440,-134.84 ; 456,127 530,200 ; 458,-157.48 461,-154.53 ; 460,224 ccw(c482.45,173.99) 507,223 ; 505,-208.66 509,-204.72 ; 525,-227.36 529,-223.43 ; 575,-137.8 578,-134.84 ; 596,-157.48 599,-154.53 ; -559.06,-3.94 -559.06,319 560,319 560,-7.87 628,-7.87 628,-318.9 -490.16,-318.9 -490.16,-3.94 -559.06,-3.94
Mechanical 16:
  circle w4: c-482.28,174 r56
  circle w4: c-344.49,174 r56
  circle w4: c-206.69,174 r56
  circle w4: c-68.9,174 r56
  circle w4: c69,174 r56
  circle w4: c207,174 r56
  circle w4: c345,174 r56
  circle w4: c483,174 r56
  lines w4: -558.07,234 558,234 ; -558.07,252 558,252 ; -459.65,-208.66 -386.81,-134.84 ; -439.96,-227.36 -366.14,-154.53 ; -321.85,-208.66 -249.02,-134.84 ; -302.17,-227.36 -228.35,-154.53 ; -184.06,-208.66 -111.22,-134.84 ; -164.37,-227.36 -90.55,-154.53 ; -46.26,-208.66 27,-134.84 ; -26.57,-227.36 48,-154.53 ; 92,-208.66 165,-134.84 ; 112,-227.36 186,-154.53 ; 230,-208.66 303,-134.84 ; 250,-227.36 323,-154.53 ; 368,-208.66 440,-134.84 ; 387,-227.36 461,-154.53 ; 505,-208.66 578,-134.84 ; 525,-227.36 599,-154.53

## MKKDS1/9-3,5 [mil]
pads (18):
  round 87 hole 44: 1(-551.18,270) 2(-482.28,-179.13) 3(-413.39,270) 4(-344.49,-179.13) 5(-275.59,270) 6(-206.69,-179.13) 7(-137.8,270) 8(-68.9,-179.13) 9(0,270) 10(69,-179.13) 11(138,270) 12(207,-179.13) 13(276,270) 14(345,-179.13) 15(414,270) 16(483,-179.13) 17(552,270) 18(621,-179.13)
Top Overlay:
  circle w4: c-482.28,-181.1 r56
  circle w4: c-344.49,-181.1 r56
  circle w4: c-206.69,-181.1 r56
  circle w4: c-68.9,-181.1 r56
  circle w4: c69,-181.1 r56
  circle w4: c207,-181.1 r56
  circle w4: c345,-181.1 r56
  circle w4: c483,-181.1 r56
  circle w4: c621,-181.1 r56
  lines w4: -626.97,234 -587.6,234 ; -626.97,252 -599.41,252 ; -625.98,34 627,34 ; -625.98,46 627,46 ; -625.98,63 627,63 ; -625.98,95 627,95 ; -625.98,114 627,114 ; -597.44,146 -524.61,220 ; -577.76,127 -503.94,200 ; -573.82,224 ccw(c-551.25,173.74) -526.57,223 ; -557.09,-309.06 696,-309.06 ; -557.09,-292.32 696,-292.32 ; -557.09,-259.84 696,-259.84 ; -557.09,-241.14 696,-241.14 ; -528.54,-208.66 -524.61,-204.72 ; -511.81,234 -449.8,234 ; -508.86,-227.36 -504.92,-223.43 ; -501.97,252 -461.61,252 ; -459.65,146 -386.81,220 ; -458.66,-137.8 -455.71,-134.84 ; -439.96,127 -366.14,200 ; -437.99,-157.48 -435.04,-154.53 ; -436.02,224 ccw(c-413.45,173.74) -388.78,223 ; -390.75,-208.66 -386.81,-204.72 ; -374.02,234 -312.01,234 ; -371.06,-227.36 -367.13,-223.43 ; -364.17,252 -323.82,252 ; -321.85,146 -249.02,220 ; -320.87,-137.8 -317.91,-134.84 ; -302.17,127 -228.35,200 ; -300.2,-157.48 -297.24,-154.53 ; -298.23,224 ccw(c-275.66,173.74) -250.98,223 ; -252.95,-208.66 -249.02,-204.72 ; -236.22,234 -174.21,234 ; -233.27,-227.36 -229.33,-223.43 ; -226.38,252 -186.02,252 ; -184.06,146 -111.22,220 ; -183.07,-137.8 -180.12,-134.84 ; -164.37,127 -90.55,200 ; -162.4,-157.48 -159.45,-154.53 ; -160.43,224 ccw(c-137.86,173.74) -113.19,223 ; -115.16,-208.66 -111.22,-204.72 ; -98.43,234 -36.42,234 ; -95.47,-227.36 -91.54,-223.43 ; -88.58,252 -48.23,252 ; -46.26,146 27,220 ; -45.28,-137.8 -42.32,-134.84 ; -26.57,127 48,200 ; -24.61,-157.48 -21.65,-154.53 ; -22.64,224 ccw(c0.13,173.32) 25,223 ; 23,-208.66 27,-204.72 ; 40,234 102,234 ; 43,-227.36 47,-223.43 ; 50,252 90,252 ; 92,146 165,220 ; 93,-137.8 96,-134.84 ; 112,127 186,200 ; 114,-157.48 117,-154.53 ; 116,224 ccw(c138.45,173.99) 163,223 ; 161,-208.66 165,-204.72 ; 178,234 240,234 ; 181,-227.36 185,-223.43 ; 188,252 228,252 ; 230,146 303,220 ; 231,-137.8 234,-134.84 ; 250,127 323,200 ; 251,-157.48 254,-154.53 ; 253,224 ccw(c275.95,172.94) 301,223 ; 299,-208.66 303,-204.72 ; 315,234 377,234 ; 318,-227.36 322,-223.43 ; 325,252 366,252 ; 368,146 440,220 ; 369,-137.8 372,-134.84 ; 387,127 461,200 ; 389,-157.48 392,-154.53 ; 391,224 ccw(c413.45,173.99) 438,223 ; 437,-208.66 440,-204.72 ; 453,234 515,234 ; 456,-227.36 460,-223.43 ; 463,252 503,252 ; 505,146 578,220 ; 506,-137.8 509,-134.84 ; 525,127 599,200 ; 527,-157.48 530,-154.53 ; 529,224 ccw(c551.45,173.99) 576,223 ; 574,-208.66 578,-204.72 ; 594,-227.36 598,-223.43 ; 644,-137.8 647,-134.84 ; 665,-157.48 668,-154.53 ; -627.95,-3.94 -627.95,319 628,319 628,-7.87 697,-7.87 697,-318.9 -559.06,-318.9 -559.06,-3.94 -627.95,-3.94
Mechanical 16:
  circle w4: c-551.18,174 r56
  circle w4: c-413.39,174 r56
  circle w4: c-275.59,174 r56
  circle w4: c-137.8,174 r56
  circle w4: c0,174 r56
  circle w4: c138,174 r56
  circle w4: c276,174 r56
  circle w4: c414,174 r56
  circle w4: c552,174 r56
  lines w4: -626.97,234 626,234 ; -626.97,252 626,252 ; -528.54,-208.66 -455.71,-134.84 ; -508.86,-227.36 -435.04,-154.53 ; -390.75,-208.66 -317.91,-134.84 ; -371.06,-227.36 -297.24,-154.53 ; -252.95,-208.66 -180.12,-134.84 ; -233.27,-227.36 -159.45,-154.53 ; -115.16,-208.66 -42.32,-134.84 ; -95.47,-227.36 -21.65,-154.53 ; 23,-208.66 96,-134.84 ; 43,-227.36 117,-154.53 ; 161,-208.66 234,-134.84 ; 181,-227.36 254,-154.53 ; 299,-208.66 372,-134.84 ; 318,-227.36 392,-154.53 ; 437,-208.66 509,-134.84 ; 456,-227.36 530,-154.53 ; 574,-208.66 647,-134.84 ; 594,-227.36 668,-154.53